# EAGLE library part CONNECTOR-SENSOR-TEMP-PRESS (library RelayBoard)
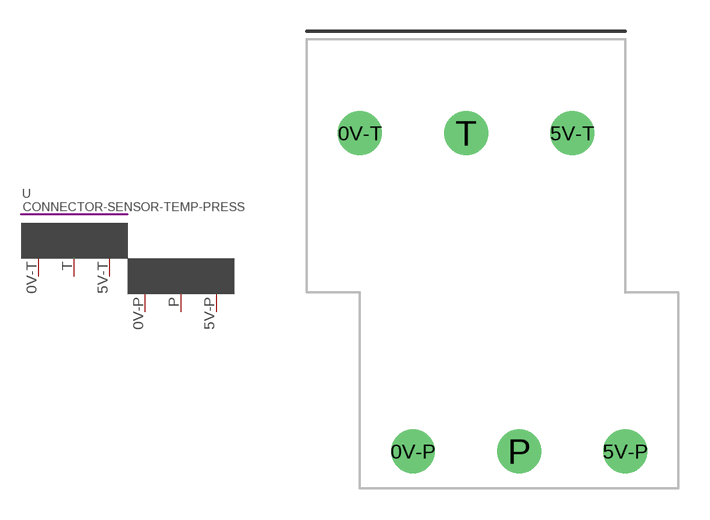
[diagram p0: symbol with the pads of CON-SCREW-2LVL-3POS-TE-CUSTOM-TEMP-PRESS-SENSOR; footprint CON-SCREW-2LVL-3POS-TE-CUSTOM-TEMP-PRESS-SENSOR]

Designator prefix -

## CONNECTOR-SENSOR-TEMP-PRESS  [CON-SCREW-2LVL-3POS-TE-CUSTOM-TEMP-PRESS-SENSOR]
0V-P  0V-P  pwr
0V-T  0V-T  pwr
5V-P  5V-P  pwr
5V-T  5V-T  pwr
P  P  in
T  T  in

## Footprint CON-SCREW-2LVL-3POS-TE-CUSTOM-TEMP-PRESS-SENSOR (pad centres in mm)
http://www.te.com/commerce/DocumentDelivery/DDEController?Action=srchrtrv&DocNm=796692&DocType=Customer+Drawing&DocLang=English
drill 1.4: 0V-P 2.54,-7.62; 0V-T 0,7.62; 5V-P 12.7,-7.62; 5V-T 10.16,7.62; P 7.62,-7.62; T 5.08,7.62